# Altium footprint library ThroHole.PcbLib: 56 footprints (part 2 of 4)
Each footprint in its own frame and in the unit in brackets; x right, y up, seen from the top. Pads: shape width x height; smd on the part's side, far side on the other; paste and mask are expansions set on the pad; w line width, h text height; cw(c..) or ccw(c..) is an arc to the next point about the centre after c.
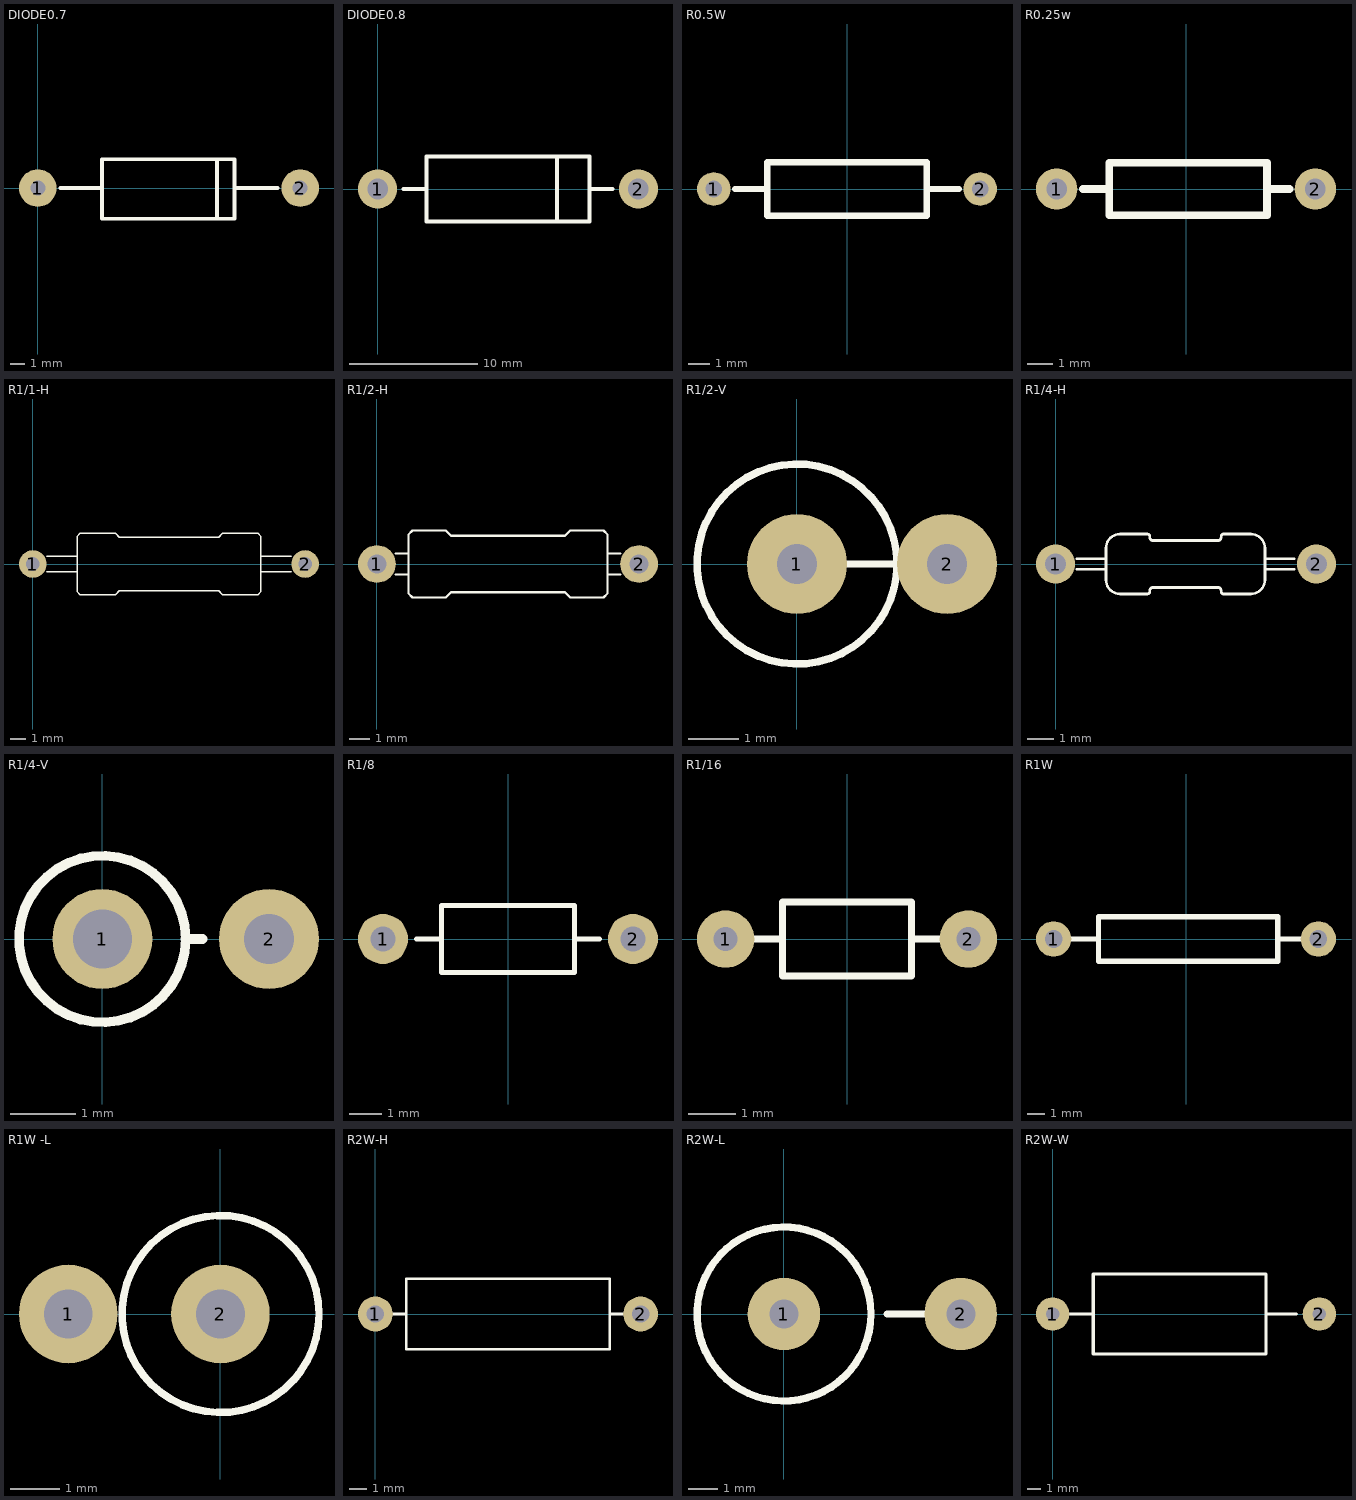
[diagram p1: the footprints below, top view; thin cyan lines are the x and y axes]

## DIODE0.7 [mil]
pads (2):
  round 100 hole 40: 1(0,0) 2(700,0)
Top Overlay:
  lines w10: 60,0 170,0 ; 478,-82 478,77 ; 528,0 640,0 ; 171,-82 525,-82 525,77 171,77 171,-82
3D body: height 151.18, standoff -118.11, extent -17.85,-74.88 721.85,70

## DIODE0.8 [mil]
pads (2):
  round 120 hole 62.99: 1(0,0) 2(800,0)
Top Overlay:
  lines w12: 80,0 150,0 ; 550,-100 550,100 ; 650,0 720,0 ; 150,-100 650,-100 650,100 150,100 150,-100

## R0.5W [mm]
pads (2):
  round 1.6 hole 0.8: 1(-6.35,0) 2(6.35,0)
Top Overlay:
  lines w0.305: -5.334,0 -3.81,0 ; 3.81,0 5.334,0 ; -3.81,-1.27 -3.81,1.27 3.81,1.27 3.81,-1.27 -3.81,-1.27

## R0.25w [mm]
pads (2):
  round 1.6 hole 0.8: 1(-5,0) 2(5,0)
Top Overlay:
  lines w0.305: -3.984,0 -2.968,0 ; 3.128,0 4,0 ; -2.968,-1.016 3.128,-1.016 3.128,1.016 -2.968,1.016 -2.968,-1.016

## R1/1-H [mm]
pads (2):
  round 1.8 hole 0.9: 1(0,0) 2(17.78,0)
Top Overlay:
  lines w0.1: 0.9,-0.5 2.89,-0.5 ; 0.9,0.5 2.89,0.5 ; 14.89,-0.5 16.88,-0.5 ; 14.89,0.5 16.88,0.5 ; 2.89,-1.802 2.89,1.802 3.088,2 5.39,2 5.64,1.75 7.518,1.75 12.14,1.75 12.39,2 14.692,2 14.89,1.802 14.89,-1.802 14.692,-2 12.39,-2 12.14,-1.75 5.64,-1.75 5.39,-2 3.088,-2 2.89,-1.802
3D body: height 3.61, standoff -3.17, extent -0.012,-1.753 17.806,1.6

## R1/2-H [mm]
pads (2):
  round 1.8 hole 0.9: 1(0,0) 2(12.5,0)
Top Overlay:
  lines w0.1: 0.9,-0.5 1.5,-0.5 ; 0.9,0.5 1.5,0.5 ; 11,-0.5 11.6,-0.5 ; 11,0.5 11.6,0.5 ; 1.5,-1.4 1.698,-1.598 3.282,-1.598 3.532,-1.348 8.968,-1.348 9.218,-1.598 10.802,-1.598 11,-1.4 11,1.4 10.802,1.598 9.218,1.598 8.968,1.348 3.532,1.348 3.282,1.598 1.698,1.598 1.5,1.4 1.5,-1.4
3D body: height 3.6, standoff -1, extent -0.481,-1.429 12.981,1.429

## R1/2-V [mm]
pads (2):
  round 2 hole 0.8: 1(0,0) 2(3,0)
Top Overlay:
  circle w0.15: c0,0 r2
  lines w0.15: 0.754,0 2.219,0
3D body: height 14.66, standoff -2, extent -1.874,-1.93 3.329,1.93

## R1/4-H [mm]
pads (2):
  round 1.5 hole 0.8: 1(0,0) 2(10,0)
Top Overlay:
  lines w0.1: 0.808,-0.2 1.932,-0.2 1.932,0.2 ; 0.808,0.2 1.932,0.2 ; 1.932,-0.2 1.932,-0.602 ccw(c2.48,-0.602) 2.48,-1.15 3.48,-1.15 3.508,-1.15 ccw(c3.508,-1.043) 3.615,-1.043 3.615,-1.015 cw(c3.73,-1.015) 3.73,-0.9 6.23,-0.9 cw(c6.23,-1.015) 6.345,-1.015 6.345,-1.043 ccw(c6.452,-1.043) 6.452,-1.15 6.48,-1.15 7.48,-1.15 ccw(c7.48,-0.602) 8.028,-0.602 8.028,-0.2 ; 8.028,0.2 9.152,0.2 ; 9.152,-0.2 8.028,-0.2 ; 1.932,0.2 1.932,0.602 cw(c2.48,0.602) 2.48,1.15 3.48,1.15 3.508,1.15 cw(c3.508,1.043) 3.615,1.043 3.615,1.015 ccw(c3.73,1.015) 3.73,0.9 6.23,0.9 ccw(c6.23,1.015) 6.345,1.015 6.345,1.043 cw(c6.452,1.043) 6.452,1.15 6.48,1.15 7.48,1.15 cw(c7.48,0.602) 8.028,0.602 8.028,0.2 8.028,-0.2
3D body: height 1.2, standoff -2.9, extent -0.4,-1.2 10.4,1.2

## R1/4-V [mil]
pads (2):
  round 60 hole 35.43: 1(0,0)
  round 60 hole 30: 2(100,0)
Top Overlay:
  circle w5.91: c0,0 r50
  lines w5.91: 50,0 60,0
3D body: height 296.06, standoff -59.06, extent -36.3,-36.23 109.85,36.24

## R1/8 [mil]
pads (2):
  round 60 hole 30: 1(-150,0) 2(150,0)
Top Overlay:
  lines w5.91: -110,0 -80,0 ; 80,0 110,0 ; -80,-40 80,-40 80,40 -80,40 -80,-40
3D body: height 98.92, standoff -39.37, extent -160,-38.24 160,38.24

## R1/16 [mm]
pads (2):
  round 1.2 hole 0.5: 1(-2.54,0) 2(2.54,0)
Top Overlay:
  lines w0.15: -2.111,0 -1.349,0 ; 1.349,0 2.111,0 ; -1.347,-0.771 -1.347,0.774 1.347,0.774 1.347,-0.771 -1.347,-0.771
3D body: height 2.39, standoff -1, extent -2.794,-0.848 2.794,0.848

## R1W [mm]
pads (2):
  round 2 hole 1: 1(-7.5,0) 2(7.5,0)
Top Overlay:
  lines w0.305: -6.484,0 -4.96,0 ; 5.2,0 6.724,0 ; -4.96,-1.27 5.2,-1.27 5.2,1.27 -4.96,1.27 -4.96,-1.27

## R1W -L [mil]
pads (2):
  round 79 hole 39: 1(-122.05,0) 2(0,0)
Top Overlay:
  circle w6: c0,0 r79
3D body: height 572.61, standoff -75.5, extent -137.23,-83.35 83.23,82

## R2W-H [mm]
pads (2):
  round 2 hole 1: 1(0,0) 2(15.24,0)
Top Overlay:
  lines w0.15: 0,0 1.778,0 ; 13.462,0 15.24,0 ; 1.778,-2.032 1.778,2.032 13.462,2.032 13.462,-2.032 1.778,-2.032
3D body: height 4.39, standoff -1.8, extent -0.4,-1.75 15.64,1.75

## R2W-L [mm]
pads (2):
  round 2.5 hole 1: 1(0,0) 2(6.096,0)
Top Overlay:
  circle w0.254: c0,0 r3
  lines w0.254: 3.556,0 5.08,0

## R2W-W [mm]
pads (2):
  round 2.5 hole 1: 1(0,0) 2(20,0)
Top Overlay:
  lines w0.254: 1.016,0 3.048,0 ; 16,0 18.288,0 ; 3.048,-3 3.048,3 16,3 16,-3 3.048,-3